# EAGLE library part OMAP-L137 (library ic-TI-DSP)
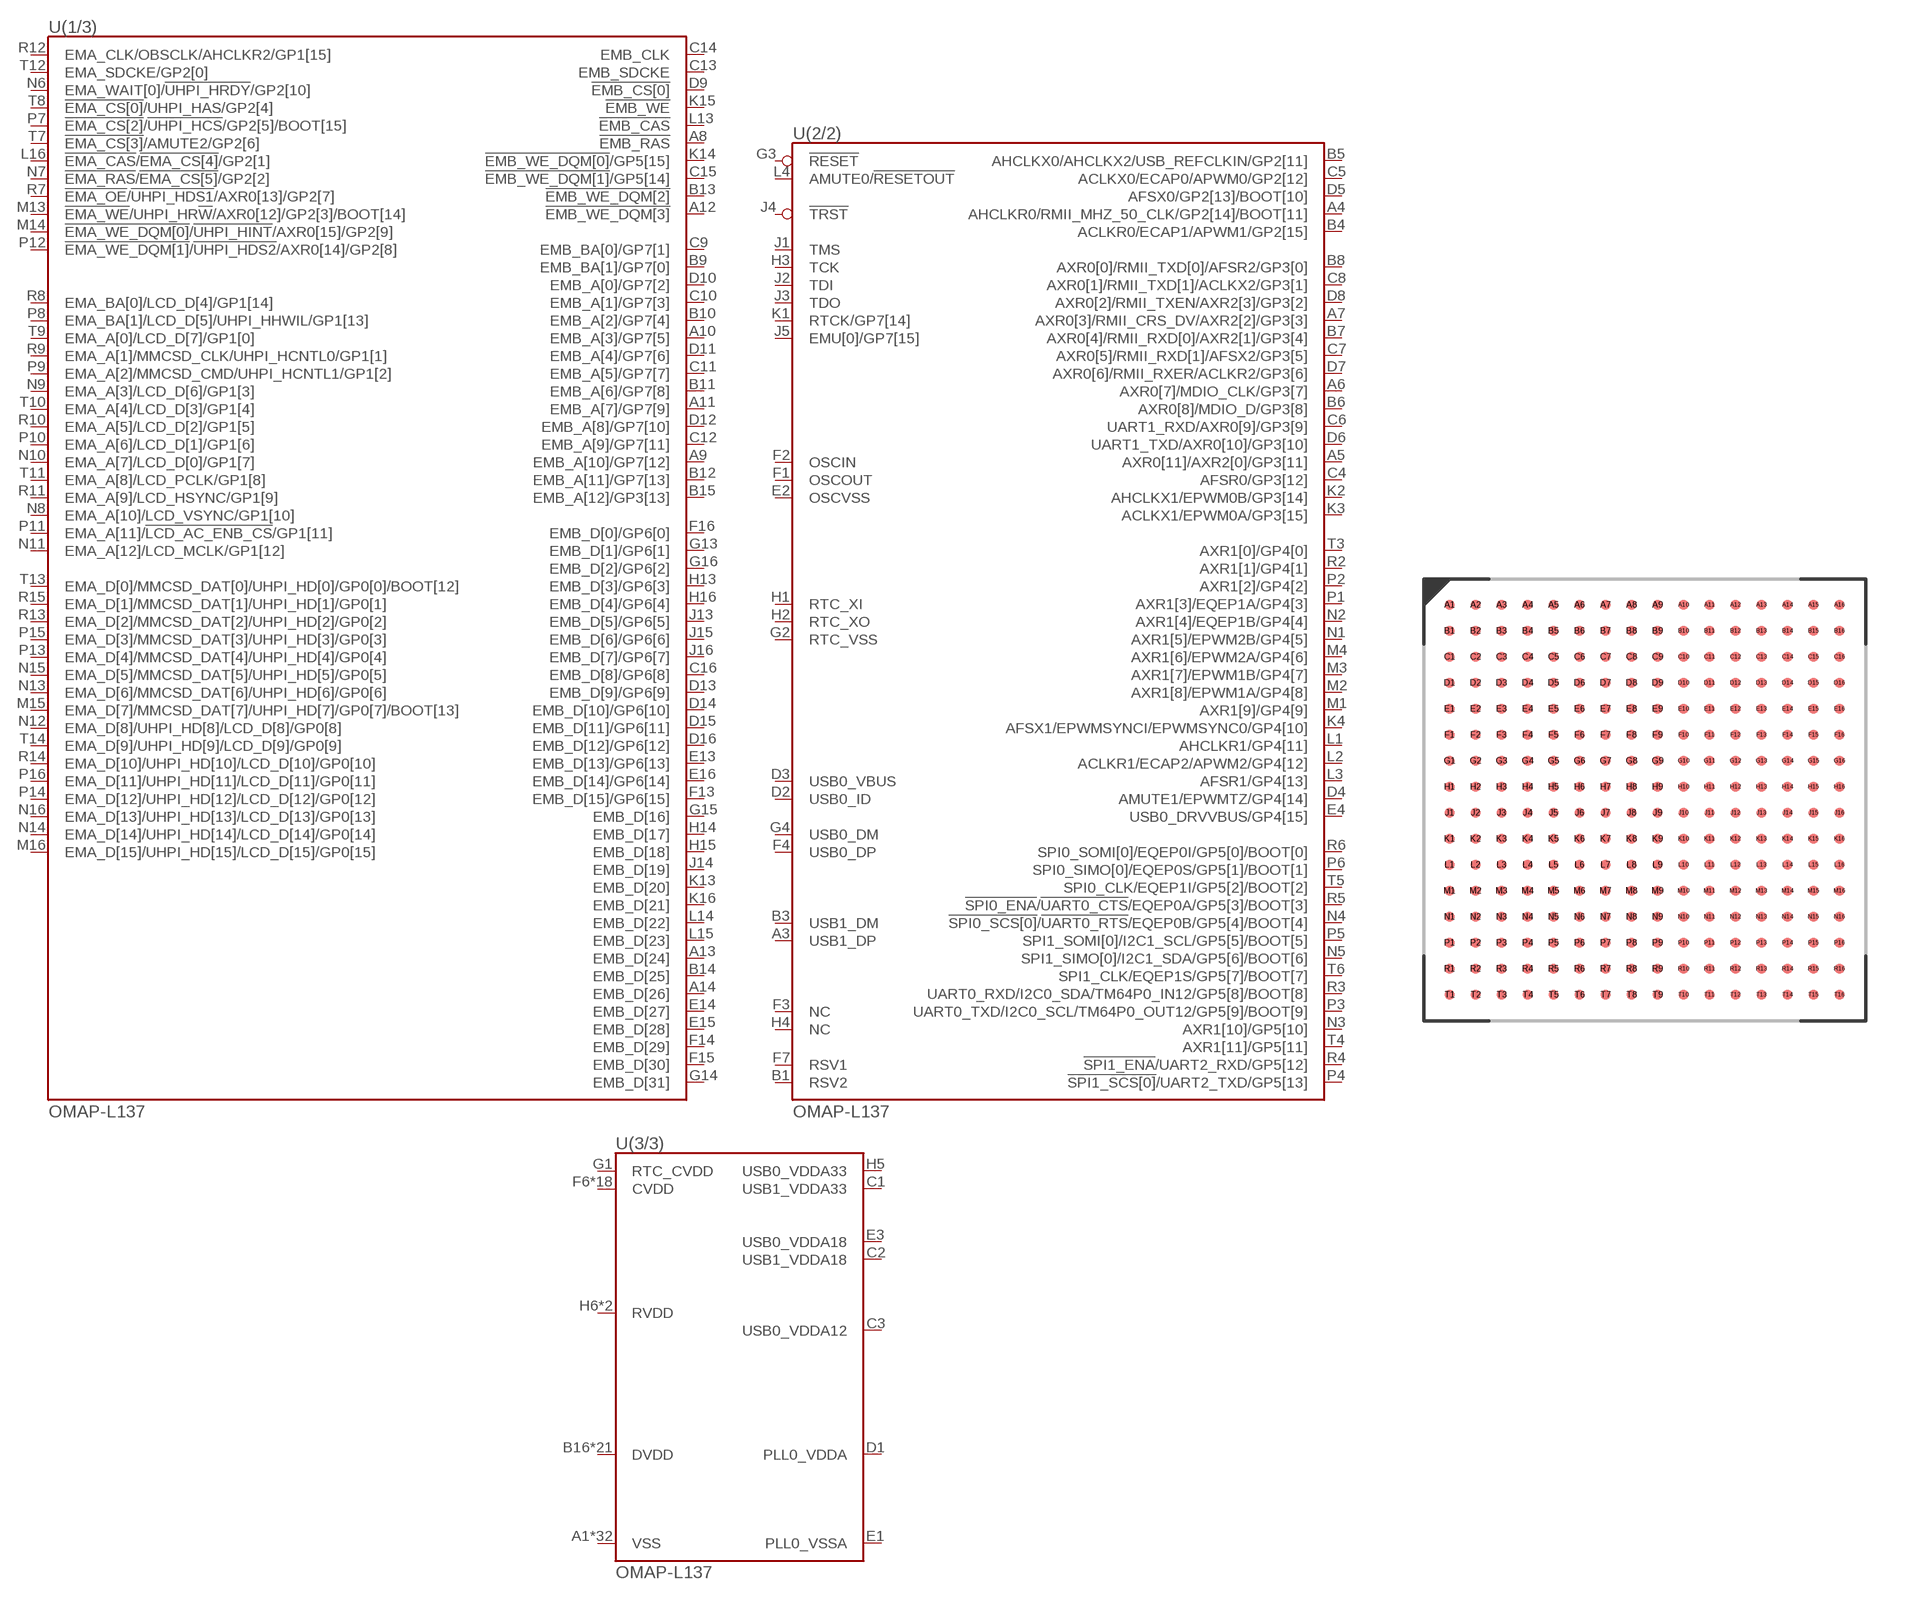
[diagram p5: symbol with the pads of BGA256-1.0; footprint BGA256-1.0]

Designator prefix U; gates (1/3)=OMAP-L137-1 (2/2)=OMAP-L137-2 (3/3)=OMAP-L137-3

## OMAP-L137  [BGA256-1.0]
A1  (3/3):VSS
A2  (3/3):VSS
A3  (2/2):USB1_DP
A4  (2/2):AHCLKR0/RMII_MHZ_50_CLK/GP2[14]/BOOT[11]
A5  (2/2):AXR0[11]/AXR2[0]/GP3[11]
A6  (2/2):AXR0[7]/MDIO_CLK/GP3[7]
A7  (2/2):AXR0[3]/RMII_CRS_DV/AXR2[2]/GP3[3]
A8  (1/3):!EMB_RAS
A9  (1/3):EMB_A[10]/GP7[12]
A10  (1/3):EMB_A[3]/GP7[5]
A11  (1/3):EMB_A[7]/GP7[9]
A12  (1/3):!EMB_WE_DQM[3]
A13  (1/3):EMB_D[24]
A14  (1/3):EMB_D[26]
A15  (3/3):VSS
A16  (3/3):VSS
B1  (2/2):RSV2
B2  (3/3):VSS
B3  (2/2):USB1_DM
B4  (2/2):ACLKR0/ECAP1/APWM1/GP2[15]
B5  (2/2):AHCLKX0/AHCLKX2/USB_REFCLKIN/GP2[11]
B6  (2/2):AXR0[8]/MDIO_D/GP3[8]
B7  (2/2):AXR0[4]/RMII_RXD[0]/AXR2[1]/GP3[4]
B8  (2/2):AXR0[0]/RMII_TXD[0]/AFSR2/GP3[0]
B9  (1/3):EMB_BA[1]/GP7[0]
B10  (1/3):EMB_A[2]/GP7[4]
B11  (1/3):EMB_A[6]/GP7[8]
B12  (1/3):EMB_A[11]/GP7[13]
B13  (1/3):!EMB_WE_DQM[2]
B14  (1/3):EMB_D[25]
B15  (1/3):EMB_A[12]/GP3[13]
B16  (3/3):DVDD
C1  (3/3):USB1_VDDA33
C2  (3/3):USB1_VDDA18
C3  (3/3):USB0_VDDA12
C4  (2/2):AFSR0/GP3[12]
C5  (2/2):ACLKX0/ECAP0/APWM0/GP2[12]
C6  (2/2):UART1_RXD/AXR0[9]/GP3[9]
C7  (2/2):AXR0[5]/RMII_RXD[1]/AFSX2/GP3[5]
C8  (2/2):AXR0[1]/RMII_TXD[1]/ACLKX2/GP3[1]
C9  (1/3):EMB_BA[0]/GP7[1]
C10  (1/3):EMB_A[1]/GP7[3]
C11  (1/3):EMB_A[5]/GP7[7]
C12  (1/3):EMB_A[9]/GP7[11]
C13  (1/3):EMB_SDCKE
C14  (1/3):EMB_CLK
C15  (1/3):!EMB_WE_DQM[1]!/GP5[14]
C16  (1/3):EMB_D[8]/GP6[8]
D1  (3/3):PLL0_VDDA
D2  (2/2):USB0_ID
D3  (2/2):USB0_VBUS
D4  (2/2):AMUTE1/EPWMTZ/GP4[14]
D5  (2/2):AFSX0/GP2[13]/BOOT[10]
D6  (2/2):UART1_TXD/AXR0[10]/GP3[10]
D7  (2/2):AXR0[6]/RMII_RXER/ACLKR2/GP3[6]
D8  (2/2):AXR0[2]/RMII_TXEN/AXR2[3]/GP3[2]
D9  (1/3):!EMB_CS[0]
D10  (1/3):EMB_A[0]/GP7[2]
D11  (1/3):EMB_A[4]/GP7[6]
D12  (1/3):EMB_A[8]/GP7[10]
D13  (1/3):EMB_D[9]/GP6[9]
D14  (1/3):EMB_D[10]/GP6[10]
D15  (1/3):EMB_D[11]/GP6[11]
D16  (1/3):EMB_D[12]/GP6[12]
E1  (3/3):PLL0_VSSA
E2  (2/2):OSCVSS
E3  (3/3):USB0_VDDA18
E4  (2/2):USB0_DRVVBUS/GP4[15]
E5  (3/3):DVDD
E6  (3/3):VSS
E7  (3/3):VSS
E8  (3/3):DVDD
E9  (3/3):DVDD
E10  (3/3):VSS
E11  (3/3):VSS
E12  (3/3):DVDD
E13  (1/3):EMB_D[13]/GP6[13]
E14  (1/3):EMB_D[27]
E15  (1/3):EMB_D[28]
E16  (1/3):EMB_D[14]/GP6[14]
F1  (2/2):OSCOUT
F2  (2/2):OSCIN
F3  (2/2):NC
F4  (2/2):USB0_DP
F5  (3/3):DVDD
F6  (3/3):CVDD
F7  (2/2):RSV1
F8  (3/3):VSS
F9  (3/3):VSS
F10  (3/3):VSS
F11  (3/3):DVDD
F12  (3/3):DVDD
F13  (1/3):EMB_D[15]/GP6[15]
F14  (1/3):EMB_D[29]
F15  (1/3):EMB_D[30]
F16  (1/3):EMB_D[0]/GP6[0]
G1  (3/3):RTC_CVDD
G2  (2/2):RTC_VSS
G3  (2/2):!RESET
G4  (2/2):USB0_DM
G5  (3/3):DVDD
G6  (3/3):CVDD
G7  (3/3):CVDD
G8  (3/3):VSS
G9  (3/3):VSS
G10  (3/3):CVDD
G11  (3/3):CVDD
G12  (3/3):DVDD
G13  (1/3):EMB_D[1]/GP6[1]
G14  (1/3):EMB_D[31]
G15  (1/3):EMB_D[16]
G16  (1/3):EMB_D[2]/GP6[2]
H1  (2/2):RTC_XI
H2  (2/2):RTC_XO
H3  (2/2):TCK
H4  (2/2):NC
H5  (3/3):USB0_VDDA33
H6  (3/3):RVDD
H7  (3/3):CVDD
H8  (3/3):VSS
H9  (3/3):VSS
H10  (3/3):CVDD
H11  (3/3):CVDD
H12  (3/3):RVDD
H13  (1/3):EMB_D[3]/GP6[3]
H14  (1/3):EMB_D[17]
H15  (1/3):EMB_D[18]
H16  (1/3):EMB_D[4]/GP6[4]
J1  (2/2):TMS
J2  (2/2):TDI
J3  (2/2):TDO
J4  (2/2):!TRST
J5  (2/2):EMU[0]/GP7[15]
J6  (3/3):CVDD
J7  (3/3):CVDD
J8  (3/3):VSS
J9  (3/3):VSS
J10  (3/3):CVDD
J11  (3/3):CVDD
J12  (3/3):CVDD
J13  (1/3):EMB_D[5]/GP6[5]
J14  (1/3):EMB_D[19]
J15  (1/3):EMB_D[6]/GP6[6]
J16  (1/3):EMB_D[7]/GP6[7]
K1  (2/2):RTCK/GP7[14]
K2  (2/2):AHCLKX1/EPWM0B/GP3[14]
K3  (2/2):ACLKX1/EPWM0A/GP3[15]
K4  (2/2):AFSX1/EPWMSYNCI/EPWMSYNC0/GP4[10]
K5  (3/3):DVDD
K6  (3/3):CVDD
K7  (3/3):CVDD
K8  (3/3):VSS
K9  (3/3):VSS
K10  (3/3):CVDD
K11  (3/3):CVDD
K12  (3/3):DVDD
K13  (1/3):EMB_D[20]
K14  (1/3):!EMB_WE_DQM[0]!/GP5[15]
K15  (1/3):!EMB_WE
K16  (1/3):EMB_D[21]
L1  (2/2):AHCLKR1/GP4[11]
L2  (2/2):ACLKR1/ECAP2/APWM2/GP4[12]
L3  (2/2):AFSR1/GP4[13]
L4  (2/2):AMUTE0/!RESETOUT!
L5  (3/3):DVDD
L6  (3/3):CVDD
L7  (3/3):VSS
L8  (3/3):VSS
L9  (3/3):VSS
L10  (3/3):VSS
L11  (3/3):DVDD
L12  (3/3):DVDD
L13  (1/3):!EMB_CAS
L14  (1/3):EMB_D[22]
L15  (1/3):EMB_D[23]
L16  (1/3):!EMA_CAS!/!EMA_CS[4]!/GP2[1]
M1  (2/2):AXR1[9]/GP4[9]
M2  (2/2):AXR1[8]/EPWM1A/GP4[8]
M3  (2/2):AXR1[7]/EPWM1B/GP4[7]
M4  (2/2):AXR1[6]/EPWM2A/GP4[6]
M5  (3/3):DVDD
M6  (3/3):VSS
M7  (3/3):VSS
M8  (3/3):DVDD
M9  (3/3):DVDD
M10  (3/3):VSS
M11  (3/3):VSS
M12  (3/3):DVDD
M13  (1/3):!EMA_WE!/UHPI_HR!W!/AXR0[12]/GP2[3]/BOOT[14]
M14  (1/3):!EMA_WE_DQM[0]!/!UHPI_HINT!/AXR0[15]/GP2[9]
M15  (1/3):EMA_D[7]/MMCSD_DAT[7]/UHPI_HD[7]/GP0[7]/BOOT[13]
M16  (1/3):EMA_D[15]/UHPI_HD[15]/LCD_D[15]/GP0[15]
N1  (2/2):AXR1[5]/EPWM2B/GP4[5]
N2  (2/2):AXR1[4]/EQEP1B/GP4[4]
N3  (2/2):AXR1[10]/GP5[10]
N4  (2/2):!SPI0_SCS[0]!/!UART0_RTS!/EQEP0B/GP5[4]/BOOT[4]
N5  (2/2):SPI1_SIMO[0]/I2C1_SDA/GP5[6]/BOOT[6]
N6  (1/3):EMA_WAIT[0]/!UHPI_HRDY!/GP2[10]
N7  (1/3):!EMA_RAS!/!EMA_CS[5]!/GP2[2]
N8  (1/3):EMA_A[10]/LCD_VSYNC/GP1[10]
N9  (1/3):EMA_A[3]/LCD_D[6]/GP1[3]
N10  (1/3):EMA_A[7]/LCD_D[0]/GP1[7]
N11  (1/3):EMA_A[12]/LCD_MCLK/GP1[12]
N12  (1/3):EMA_D[8]/UHPI_HD[8]/LCD_D[8]/GP0[8]
N13  (1/3):EMA_D[6]/MMCSD_DAT[6]/UHPI_HD[6]/GP0[6]
N14  (1/3):EMA_D[14]/UHPI_HD[14]/LCD_D[14]/GP0[14]
N15  (1/3):EMA_D[5]/MMCSD_DAT[5]/UHPI_HD[5]/GP0[5]
N16  (1/3):EMA_D[13]/UHPI_HD[13]/LCD_D[13]/GP0[13]
P1  (2/2):AXR1[3]/EQEP1A/GP4[3]
P2  (2/2):AXR1[2]/GP4[2]
P3  (2/2):UART0_TXD/I2C0_SCL/TM64P0_OUT12/GP5[9]/BOOT[9]
P4  (2/2):!SPI1_SCS[0]!/UART2_TXD/GP5[13]
P5  (2/2):SPI1_SOMI[0]/I2C1_SCL/GP5[5]/BOOT[5]
P6  (2/2):SPI0_SIMO[0]/EQEP0S/GP5[1]/BOOT[1]
P7  (1/3):!EMA_CS[2]!/!UHPI_HCS!/GP2[5]/BOOT[15]
P8  (1/3):EMA_BA[1]/LCD_D[5]/UHPI_HHWIL/GP1[13]
P9  (1/3):EMA_A[2]/MMCSD_CMD/UHPI_HCNTL1/GP1[2]
P10  (1/3):EMA_A[6]/LCD_D[1]/GP1[6]
P11  (1/3):EMA_A[11]/!LCD_AC_ENB_CS!/GP1[11]
P12  (1/3):!EMA_WE_DQM[1]!/!UHPI_HDS2!/AXR0[14]/GP2[8]
P13  (1/3):EMA_D[4]/MMCSD_DAT[4]/UHPI_HD[4]/GP0[4]
P14  (1/3):EMA_D[12]/UHPI_HD[12]/LCD_D[12]/GP0[12]
P15  (1/3):EMA_D[3]/MMCSD_DAT[3]/UHPI_HD[3]/GP0[3]
P16  (1/3):EMA_D[11]/UHPI_HD[11]/LCD_D[11]/GP0[11]
R1  (3/3):DVDD
R2  (2/2):AXR1[1]/GP4[1]
R3  (2/2):UART0_RXD/I2C0_SDA/TM64P0_IN12/GP5[8]/BOOT[8]
R4  (2/2):!SPI1_ENA!/UART2_RXD/GP5[12]
R5  (2/2):!SPI0_ENA!/!UART0_CTS!/EQEP0A/GP5[3]/BOOT[3]
R6  (2/2):SPI0_SOMI[0]/EQEP0I/GP5[0]/BOOT[0]
R7  (1/3):!EMA_OE!/!UHPI_HDS1!/AXR0[13]/GP2[7]
R8  (1/3):EMA_BA[0]/LCD_D[4]/GP1[14]
R9  (1/3):EMA_A[1]/MMCSD_CLK/UHPI_HCNTL0/GP1[1]
R10  (1/3):EMA_A[5]/LCD_D[2]/GP1[5]
R11  (1/3):EMA_A[9]/LCD_HSYNC/GP1[9]
R12  (1/3):EMA_CLK/OBSCLK/AHCLKR2/GP1[15]
R13  (1/3):EMA_D[2]/MMCSD_DAT[2]/UHPI_HD[2]/GP0[2]
R14  (1/3):EMA_D[10]/UHPI_HD[10]/LCD_D[10]/GP0[10]
R15  (1/3):EMA_D[1]/MMCSD_DAT[1]/UHPI_HD[1]/GP0[1]
R16  (3/3):DVDD
T1  (3/3):VSS
T2  (3/3):VSS
T3  (2/2):AXR1[0]/GP4[0]
T4  (2/2):AXR1[11]/GP5[11]
T5  (2/2):SPI0_CLK/EQEP1I/GP5[2]/BOOT[2]
T6  (2/2):SPI1_CLK/EQEP1S/GP5[7]/BOOT[7]
T7  (1/3):!EMA_CS[3]!/AMUTE2/GP2[6]
T8  (1/3):!EMA_CS[0]!/UHPI_HAS/GP2[4]
T9  (1/3):EMA_A[0]/LCD_D[7]/GP1[0]
T10  (1/3):EMA_A[4]/LCD_D[3]/GP1[4]
T11  (1/3):EMA_A[8]/LCD_PCLK/GP1[8]
T12  (1/3):EMA_SDCKE/GP2[0]
T13  (1/3):EMA_D[0]/MMCSD_DAT[0]/UHPI_HD[0]/GP0[0]/BOOT[12]
T14  (1/3):EMA_D[9]/UHPI_HD[9]/LCD_D[9]/GP0[9]
T15  (3/3):VSS
T16  (3/3):VSS

## Footprint BGA256-1.0 (pad centres in mm)
smd 0.365 x 0.365: A1 -7.5,7.5; A2 -6.5,7.5; A3 -5.5,7.5; A4 -4.5,7.5; A5 -3.5,7.5; A6 -2.5,7.5; A7 -1.5,7.5; A8 -0.5,7.5; A9 0.5,7.5; A10 1.5,7.5; A11 2.5,7.5; A12 3.5,7.5; A13 4.5,7.5; A14 5.5,7.5; A15 6.5,7.5; A16 7.5,7.5; B1 -7.5,6.5; B2 -6.5,6.5; B3 -5.5,6.5; B4 -4.5,6.5; B5 -3.5,6.5; B6 -2.5,6.5; B7 -1.5,6.5; B8 -0.5,6.5; B9 0.5,6.5; B10 1.5,6.5; B11 2.5,6.5; B12 3.5,6.5; B13 4.5,6.5; B14 5.5,6.5; B15 6.5,6.5; B16 7.5,6.5; C1 -7.5,5.5; C2 -6.5,5.5; C3 -5.5,5.5; C4 -4.5,5.5; C5 -3.5,5.5; C6 -2.5,5.5; C7 -1.5,5.5; C8 -0.5,5.5; C9 0.5,5.5; C10 1.5,5.5; C11 2.5,5.5; C12 3.5,5.5; C13 4.5,5.5; C14 5.5,5.5; C15 6.5,5.5; C16 7.5,5.5; D1 -7.5,4.5; D2 -6.5,4.5; D3 -5.5,4.5; D4 -4.5,4.5; D5 -3.5,4.5; D6 -2.5,4.5; D7 -1.5,4.5; D8 -0.5,4.5; D9 0.5,4.5; D10 1.5,4.5; D11 2.5,4.5; D12 3.5,4.5; D13 4.5,4.5; D14 5.5,4.5; D15 6.5,4.5; D16 7.5,4.5; E1 -7.5,3.5; E2 -6.5,3.5; E3 -5.5,3.5; E4 -4.5,3.5; E5 -3.5,3.5; E6 -2.5,3.5; E7 -1.5,3.5; E8 -0.5,3.5; E9 0.5,3.5; E10 1.5,3.5; E11 2.5,3.5; E12 3.5,3.5; E13 4.5,3.5; E14 5.5,3.5; E15 6.5,3.5; E16 7.5,3.5; F1 -7.5,2.5; F2 -6.5,2.5; F3 -5.5,2.5; F4 -4.5,2.5; F5 -3.5,2.5; F6 -2.5,2.5; F7 -1.5,2.5; F8 -0.5,2.5; F9 0.5,2.5; F10 1.5,2.5; F11 2.5,2.5; F12 3.5,2.5; F13 4.5,2.5; F14 5.5,2.5; F15 6.5,2.5; F16 7.5,2.5; G1 -7.5,1.5; G2 -6.5,1.5; G3 -5.5,1.5; G4 -4.5,1.5; G5 -3.5,1.5; G6 -2.5,1.5; G7 -1.5,1.5; G8 -0.5,1.5; G9 0.5,1.5; G10 1.5,1.5; G11 2.5,1.5; G12 3.5,1.5; G13 4.5,1.5; G14 5.5,1.5; G15 6.5,1.5; G16 7.5,1.5; H1 -7.5,0.5; H2 -6.5,0.5; H3 -5.5,0.5; H4 -4.5,0.5; H5 -3.5,0.5; H6 -2.5,0.5; H7 -1.5,0.5; H8 -0.5,0.5; H9 0.5,0.5; H10 1.5,0.5; H11 2.5,0.5; H12 3.5,0.5; H13 4.5,0.5; H14 5.5,0.5; H15 6.5,0.5; H16 7.5,0.5; J1 -7.5,-0.5; J2 -6.5,-0.5; J3 -5.5,-0.5; J4 -4.5,-0.5; J5 -3.5,-0.5; J6 -2.5,-0.5; J7 -1.5,-0.5; J8 -0.5,-0.5; J9 0.5,-0.5; J10 1.5,-0.5; J11 2.5,-0.5; J12 3.5,-0.5; J13 4.5,-0.5; J14 5.5,-0.5; J15 6.5,-0.5; J16 7.5,-0.5; K1 -7.5,-1.5; K2 -6.5,-1.5; K3 -5.5,-1.5; K4 -4.5,-1.5; K5 -3.5,-1.5; K6 -2.5,-1.5; K7 -1.5,-1.5; K8 -0.5,-1.5; K9 0.5,-1.5; K10 1.5,-1.5; K11 2.5,-1.5; K12 3.5,-1.5; K13 4.5,-1.5; K14 5.5,-1.5; K15 6.5,-1.5; K16 7.5,-1.5; L1 -7.5,-2.5; L2 -6.5,-2.5; L3 -5.5,-2.5; L4 -4.5,-2.5; L5 -3.5,-2.5; L6 -2.5,-2.5; L7 -1.5,-2.5; L8 -0.5,-2.5; L9 0.5,-2.5; L10 1.5,-2.5; L11 2.5,-2.5; L12 3.5,-2.5; L13 4.5,-2.5; L14 5.5,-2.5; L15 6.5,-2.5; L16 7.5,-2.5; M1 -7.5,-3.5; M2 -6.5,-3.5; M3 -5.5,-3.5; M4 -4.5,-3.5; M5 -3.5,-3.5; M6 -2.5,-3.5; M7 -1.5,-3.5; M8 -0.5,-3.5; M9 0.5,-3.5; M10 1.5,-3.5; M11 2.5,-3.5; M12 3.5,-3.5; M13 4.5,-3.5; M14 5.5,-3.5; M15 6.5,-3.5; M16 7.5,-3.5; N1 -7.5,-4.5; N2 -6.5,-4.5; N3 -5.5,-4.5; N4 -4.5,-4.5; N5 -3.5,-4.5; N6 -2.5,-4.5; N7 -1.5,-4.5; N8 -0.5,-4.5; N9 0.5,-4.5; N10 1.5,-4.5; N11 2.5,-4.5; N12 3.5,-4.5; N13 4.5,-4.5; N14 5.5,-4.5; N15 6.5,-4.5; N16 7.5,-4.5; P1 -7.5,-5.5; P2 -6.5,-5.5; P3 -5.5,-5.5; P4 -4.5,-5.5; P5 -3.5,-5.5; P6 -2.5,-5.5; P7 -1.5,-5.5; P8 -0.5,-5.5; P9 0.5,-5.5; P10 1.5,-5.5; P11 2.5,-5.5; P12 3.5,-5.5; P13 4.5,-5.5; P14 5.5,-5.5; P15 6.5,-5.5; P16 7.5,-5.5; R1 -7.5,-6.5; R2 -6.5,-6.5; R3 -5.5,-6.5; R4 -4.5,-6.5; R5 -3.5,-6.5; R6 -2.5,-6.5; R7 -1.5,-6.5; R8 -0.5,-6.5; R9 0.5,-6.5; R10 1.5,-6.5; R11 2.5,-6.5; R12 3.5,-6.5; R13 4.5,-6.5; R14 5.5,-6.5; R15 6.5,-6.5; R16 7.5,-6.5; T1 -7.5,-7.5; T2 -6.5,-7.5; T3 -5.5,-7.5; T4 -4.5,-7.5; T5 -3.5,-7.5; T6 -2.5,-7.5; T7 -1.5,-7.5; T8 -0.5,-7.5; T9 0.5,-7.5; T10 1.5,-7.5; T11 2.5,-7.5; T12 3.5,-7.5; T13 4.5,-7.5; T14 5.5,-7.5; T15 6.5,-7.5; T16 7.5,-7.5